# Altium footprint library Nutz.PcbLib: 67 footprints (part 5 of 5)
Each footprint in its own frame and in the unit in brackets; x right, y up, seen from the top. Pads: shape width x height; smd on the part's side, far side on the other; paste and mask are expansions set on the pad; w line width, h text height; cw(c..) or ccw(c..) is an arc to the next point about the centre after c.
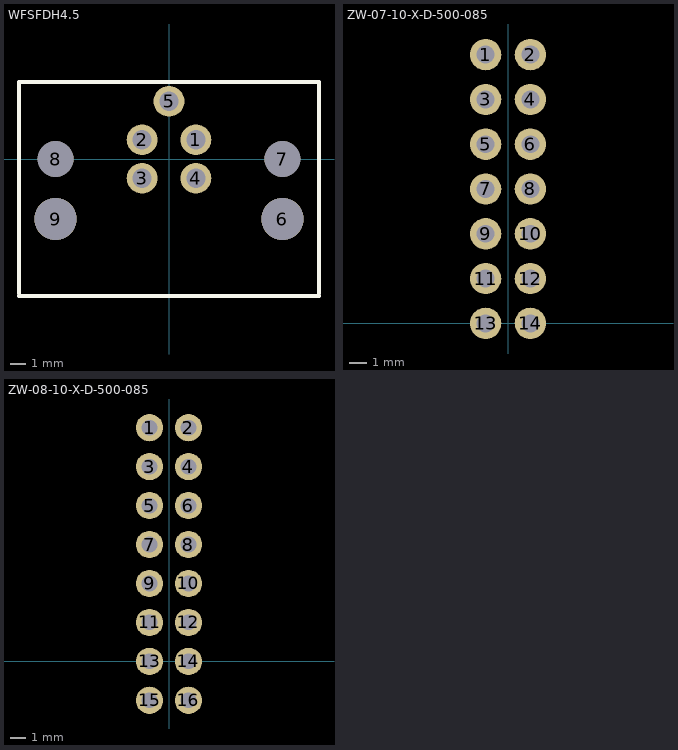
[diagram p4: the footprints below, top view; thin cyan lines are the x and y axes]

## WFSFDH4.5 [mil]
pads (9):
  round 80 hole 50: 1(70,50) 2(-70,50) 3(-70,-50) 4(70,-50) 5(0,150)
  round 110 hole 110 unplated: 6(295,-156) 9(-295,-156)
  round 93 hole 93 unplated: 7(295,0) 8(-295,0)
Top Overlay:
  lines w10: -390,-356 390,-356 ; -390,-350 -390,200 390,200 390,-350
3D body: height 630.28, standoff -224.05, extent -393.69,-885.23 393.71,170.28

## ZW-07-10-X-D-500-085 [mil]
pads (14):
  round 70 hole 40: 1(-50,600) 2(50,600) 3(-50,500) 4(50,500) 5(-50,400) 6(50,400) 7(-50,300) 8(50,300) 9(-50,200) 10(50,200) 11(-50,100) 12(50,100) 13(-50,0) 14(50,0)
3D body: height 745, standoff -85, extent -115,-65 115,665

## ZW-08-10-X-D-500-085 [mil]
pads (16):
  round 70 hole 40: 1(-50,600) 2(50,600) 3(-50,500) 4(50,500) 5(-50,400) 6(50,400) 7(-50,300) 8(50,300) 9(-50,200) 10(50,200) 11(-50,100) 12(50,100) 13(-50,0) 14(50,0) 15(-50,-100) 16(50,-100)
3D body: height 745, standoff -85, extent -115,-167.5 115,662.5